# Altium footprint library NET_TIE-20.PcbLib: 1 footprints
Each footprint in its own frame and in the unit in brackets; x right, y up, seen from the top. Pads: shape width x height; smd on the part's side, far side on the other; paste and mask are expansions set on the pad; w line width, h text height; cw(c..) or ccw(c..) is an arc to the next point about the centre after c.
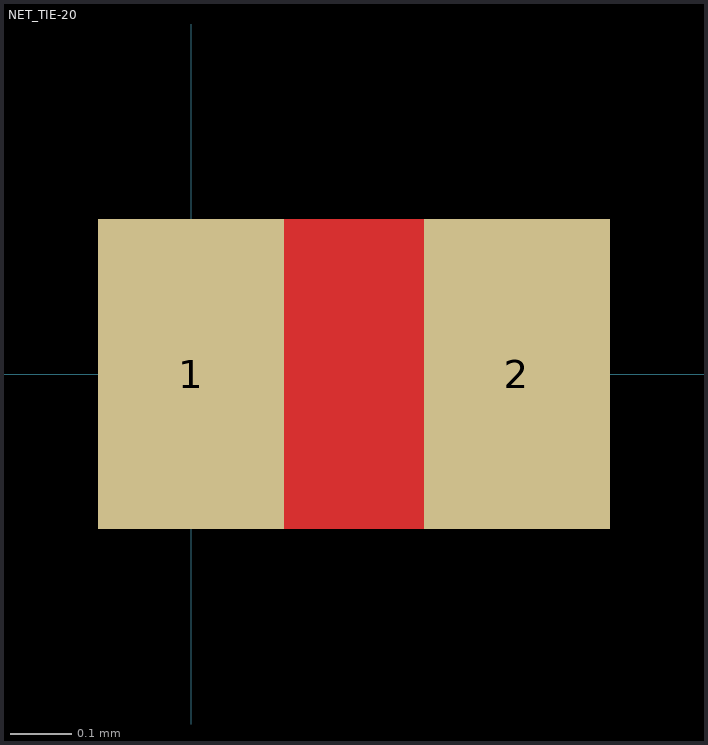
[diagram p0: the footprint, top view; thin cyan lines are the x and y axes]

## NET_TIE-20 [mil] "12mil patch for net tie."
pads (2):
  rect 12x20 smd paste-20 mask+4: 1(0,0) 2(21,0)
Top Layer:
  lines w20: 4,0 17,0